# EAGLE library part AD5321 (library KylePile)
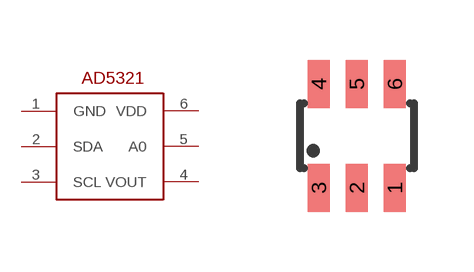
[diagram p5: symbol with the pads of SOT23-6-MCP4725; footprint SOT23-6-MCP4725]

Designator prefix -

## AD5321  [SOT23-6-MCP4725]
1  GND
2  SDA
3  SCL
4  VOUT
5  A0
6  VDD

## Footprint SOT23-6-MCP4725 (pad centres in mm)
smd 0.55 x 1.2: 1 0.95,-1.3; 2 0,-1.3; 3 -0.95,-1.3; 4 -0.95,1.3; 5 0,1.3; 6 0.95,1.3